# Altium schematic symbol library SCH_BASE.SchLib: 3 symbols
Pins are listed as number, name and electrical type; pins without a type are passive.

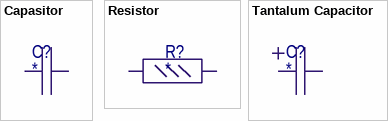
[diagram p0: symbols Capasitor to Tantalum Capacitor]

## Capasitor
designator C?
pins: 1, 2

## Resistor
designator R?
pins: 1, 2

## Tantalum Capacitor
designator C?
pins: 1, 2